# EAGLE library part LTC5582 (library linear-technology)
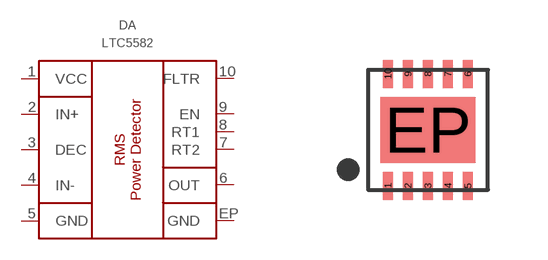
[diagram p0: symbol with the pads of 10-LEAD; footprint 10-LEAD]

Designator prefix DA

## LTC5582IDD#PBF  [10-LEAD]
1  VCC  pwr
2  IN+  in
3  DEC  in
4  IN-  in
5  GND  pwr
6  OUT  out
7  RT2  out
8  RT1  out
9  EN  in
10  FLTR  in
EP  GND  pwr

## Footprint 10-LEAD (pad centres in mm)
smd 0.25 x 0.7: 1 -1,-1.4; 2 -0.5,-1.4; 3 0,-1.4; 4 0.5,-1.4; 5 1,-1.4; 6 1,1.4; 7 0.5,1.4; 8 0,1.4; 9 -0.5,1.4; 10 -1,1.4
smd 2.38 x 1.65: EP 0,0